# EAGLE library part SWD_TARGET_6PIN_TAG-CONNECT_TC2030-IDC-NL (library Connector_SWD)
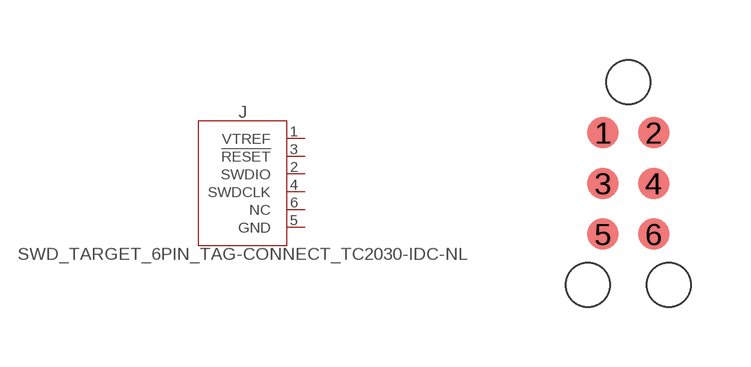
[diagram p1: symbol with the pads of TAG-CONNECT_TC2030-IDL-NL; footprint TAG-CONNECT_TC2030-IDL-NL]

Designator prefix J

## SWD_TARGET_6PIN_TAG-CONNECT_TC2030-IDC-NL  [TAG-CONNECT_TC2030-IDL-NL]
1  VTREF  pwr
2  SWDIO
3  !RESET  out
4  SWDCLK  out
5  GND  pas
6  NC  nc

## Footprint TAG-CONNECT_TC2030-IDL-NL (pad centres in mm)
smd 0.787 x 0.787: 1 -0.635,1.27; 2 0.635,1.27; 3 -0.635,0; 4 0.635,0; 5 -0.635,-1.27; 6 0.635,-1.27
hole 1.1 at 0,2.54
hole 1.1 at -1.016,-2.54
hole 1.1 at 1.016,-2.54